# EAGLE library part AD8253 (library LAB-ICM100)
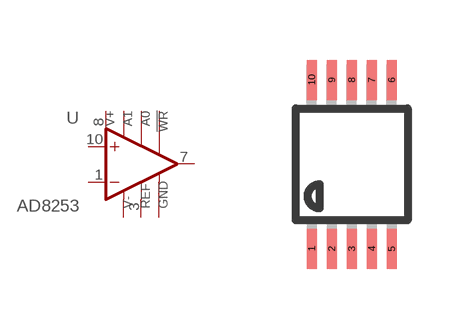
[diagram p1: symbol with the pads of MSOP10; footprint MSOP10]

Designator prefix -

## AD8253  [MSOP10]
1  -IN  in
2  DGND  pwr
3  V-
4  A0
5  A1
6  !WR
7  OUT  out
8  V+  pwr
9  REF
10  +IN  in

## Footprint MSOP10 (pad centres in mm)
10-Lead Mini Small Outline Package [MSOP] (RM-10) Source: http://www.analog.com/UploadedFiles/Data_Sheets/35641221898805SSM2167_b.pdf COMPLIANT TO JEDEC STANDARDS MO-187BA
smd 0.25 x 1: 1 -1,-2.113; 2 -0.5,-2.113; 3 0,-2.113; 4 0.5,-2.113; 5 1,-2.113; 6 1,2.113; 7 0.5,2.113; 8 0,2.113; 9 -0.5,2.113; 10 -1,2.113